# EAGLE library part BME280 (library we-sensor)
Bosch BME280 Temperature, Pressure, Humidity Sensor
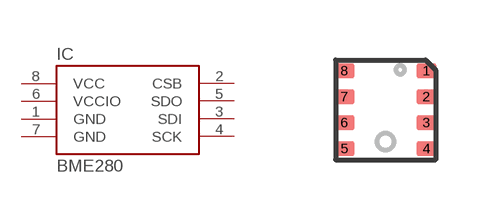
[diagram p0: symbol with the pads of BME280; footprint BME280]

Designator prefix IC

## BME280  [BME280]
1  GND  pwr
2  CSB  in
3  SDI
4  SCK
5  SDO
6  VCCIO  pwr
7  GND  pwr
8  VCC  pwr

## Footprint BME280 (pad centres in mm)
smd 0.5 x 0.35: 1 1.025,0.975; 2 1.025,0.325; 3 1.025,-0.325; 4 1.025,-0.975; 5 -1.025,-0.975; 6 -1.025,-0.325; 7 -1.025,0.325; 8 -1.025,0.975